# Altium schematic symbol library WE-MLS.SchLib: 10 symbols
Pins are listed as number, name and electrical type; pins without a type are passive.

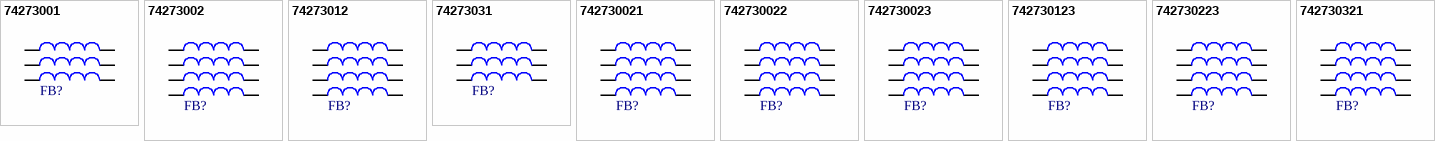
[diagram p0: symbols 74273001 to 742730321]

## 74273001
designator FB?, comment 264Ohm  (value not drawn)
WE-MLS Multiline EMI Suppression Ferrite, 3 Lines, 264Ohm, 4A; Manufacturer Part Number: 74273001; Manufacturer: Wurth Elektronik; DC Resistance Max: 2mOhm; Impedance @25MHz: 212Ohm; Type: 3 Lines; Category: Ferrites for PCB Assembly; Match Code: WE-MLS; ComponentLink1Description: Website Link; ComponentLink1URL: https://www.we-online.com/redexpert/article/74273001?ad; ComponentLink2Description: Datasheet Link; ComponentLink2URL: https://www.we-online.com/redexpert/spec/74273001?ad; Mount: Through Hole; Operating Temperature Max: 125°C; Operating Temperature Min: -25°C; Packaging: Tube; Length: 7.62mm; Width: 5.08mm; Height: 10mm; Impedance @100MHz: 264Ohm; Rated Current: 4A
footprint 74273001
pins: 1, 2, 3, 4, 5, 6

## 74273002
designator FB?, comment 249Ohm  (value not drawn)
WE-MLS Multiline EMI Suppression Ferrite, 4 Lines, 249Ohm, 4A; Manufacturer Part Number: 74273002; Manufacturer: Wurth Elektronik; DC Resistance Max: 2mOhm; Impedance @25MHz: 209Ohm; Type: 4 Lines; Category: Ferrites for PCB Assembly; Match Code: WE-MLS; ComponentLink1Description: Website Link; ComponentLink1URL: https://www.we-online.com/redexpert/article/74273002?ad; ComponentLink2Description: Datasheet Link; ComponentLink2URL: https://www.we-online.com/redexpert/spec/74273002?ad; Mount: Through Hole; Operating Temperature Max: 125°C; Operating Temperature Min: -25°C; Packaging: Tube; Length: 10.88mm; Width: 5.49mm; Height: 11.2mm; Impedance @100MHz: 249Ohm; Rated Current: 4A
footprint 74273002
pins: 1, 2, 3, 4, 5, 6, 7, 8

## 74273012
designator FB?, comment 249Ohm  (value not drawn)
WE-MLS Multiline EMI Suppression Ferrite, 4 Lines, 249Ohm, 4A; Manufacturer Part Number: 74273012; Manufacturer: Wurth Elektronik; DC Resistance Max: 2mOhm; Impedance @25MHz: 209Ohm; Type: 4 Lines; Category: Ferrites for PCB Assembly; Match Code: WE-MLS; ComponentLink1Description: Website Link; ComponentLink1URL: https://www.we-online.com/redexpert/article/74273012?ad; ComponentLink2Description: Datasheet Link; ComponentLink2URL: https://www.we-online.com/redexpert/spec/74273012?ad; Mount: Through Hole; Operating Temperature Max: 125°C; Operating Temperature Min: -25°C; Packaging: Tube; Length: 10.88mm; Width: 5.49mm; Height: 10mm; Impedance @100MHz: 249Ohm; Rated Current: 4A
footprint 74273012
pins: 1, 2, 3, 4, 5, 6, 7, 8

## 74273031
designator FB?, comment 264Ohm  (value not drawn)
WE-MLS Multiline EMI Suppression Ferrite, 3 Lines, 264Ohm, 4A; Manufacturer Part Number: 74273031; Manufacturer: Wurth Elektronik; DC Resistance Max: 2mOhm; Impedance @25MHz: 212Ohm; Type: 3 Lines; Category: Ferrites for PCB Assembly; Match Code: WE-MLS; ComponentLink1Description: Website Link; ComponentLink1URL: https://www.we-online.com/redexpert/article/74273031?ad; ComponentLink2Description: Datasheet Link; ComponentLink2URL: https://www.we-online.com/redexpert/spec/74273031?ad; Mount: Through Hole; Operating Temperature Max: 125°C; Operating Temperature Min: -25°C; Packaging: Tube; Length: 7.62mm; Width: 5.08mm; Height: 11.2mm; Impedance @100MHz: 264Ohm; Rated Current: 4A
footprint 74273031
pins: 1, 2, 3, 4, 5, 6

## 742730021
designator FB?, comment 170Ohm  (value not drawn)
WE-MLS Multiline EMI Suppression Ferrite, 4 Lines, 170Ohm, 4A; Manufacturer Part Number: 742730021; Manufacturer: Wurth Elektronik; DC Resistance Max: 2mOhm; Impedance @25MHz: 136Ohm; Type: 4 Lines; Category: Ferrites for PCB Assembly; Match Code: WE-MLS; ComponentLink1Description: Website Link; ComponentLink1URL: https://www.we-online.com/redexpert/article/742730021?ad; ComponentLink2Description: Datasheet Link; ComponentLink2URL: https://www.we-online.com/redexpert/spec/742730021?ad; Mount: Through Hole; Operating Temperature Max: 125°C; Operating Temperature Min: -25°C; Packaging: Tube; Length: 11.2mm; Width: 11.2mm; Height: 11.75mm; Impedance @100MHz: 170Ohm; Rated Current: 4A
footprint 742730021
pins: 1, 2, 3, 4, 5, 6, 7, 8

## 742730022
designator FB?, comment 248Ohm  (value not drawn)
WE-MLS Multiline EMI Suppression Ferrite, 4 Lines, 248Ohm, 4A; Manufacturer Part Number: 742730022; Manufacturer: Wurth Elektronik; DC Resistance Max: 2mOhm; Impedance @25MHz: 208Ohm; Type: 4 Lines; Category: Ferrites for PCB Assembly; Match Code: WE-MLS; ComponentLink1Description: Website Link; ComponentLink1URL: https://www.we-online.com/redexpert/article/742730022?ad; ComponentLink2Description: Datasheet Link; ComponentLink2URL: https://www.we-online.com/redexpert/spec/742730022?ad; Mount: Through Hole; Operating Temperature Max: 125°C; Operating Temperature Min: -25°C; Packaging: Tube; Length: 11.2mm; Width: 11.2mm; Height: 11.75mm; Impedance @100MHz: 248Ohm; Rated Current: 4A
footprint 742730022
pins: 1, 2, 3, 4, 5, 6, 7, 8

## 742730023
designator FB?, comment 334Ohm  (value not drawn)
WE-MLS Multiline EMI Suppression Ferrite, 4 Lines, 334Ohm, 4A; Manufacturer Part Number: 742730023; Manufacturer: Wurth Elektronik; DC Resistance Max: 2mOhm; Impedance @25MHz: 292Ohm; Type: 4 Lines; Category: Ferrites for PCB Assembly; Match Code: WE-MLS; ComponentLink1Description: Website Link; ComponentLink1URL: https://www.we-online.com/redexpert/article/742730023?ad; ComponentLink2Description: Datasheet Link; ComponentLink2URL: https://www.we-online.com/redexpert/spec/742730023?ad; Mount: Through Hole; Operating Temperature Max: 125°C; Operating Temperature Min: -25°C; Packaging: Tube; Length: 11.2mm; Width: 11.2mm; Height: 13.95mm; Impedance @100MHz: 334Ohm; Rated Current: 4A
footprint 742730023
pins: 1, 2, 3, 4, 5, 6, 7, 8

## 742730123
designator FB?, comment 334Ohm  (value not drawn)
WE-MLS Multiline EMI Suppression Ferrite, 4 Lines, 334Ohm, 4A; Manufacturer Part Number: 742730123; Manufacturer: Wurth Elektronik; DC Resistance Max: 2mOhm; Impedance @25MHz: 292Ohm; Type: 4 Lines; Category: Ferrites for PCB Assembly; Match Code: WE-MLS; ComponentLink1Description: Website Link; ComponentLink1URL: https://www.we-online.com/redexpert/article/742730123?ad; ComponentLink2Description: Datasheet Link; ComponentLink2URL: https://www.we-online.com/redexpert/spec/742730123?ad; Mount: Through Hole; Operating Temperature Max: 125°C; Operating Temperature Min: -25°C; Packaging: Tube; Length: 11.2mm; Width: 11.2mm; Height: 11mm; Impedance @100MHz: 334Ohm; Rated Current: 4A
footprint 742730123
pins: 1, 2, 3, 4, 5, 6, 7, 8

## 742730223
designator FB?, comment 334Ohm  (value not drawn)
WE-MLS Multiline EMI Suppression Ferrite, 4 Lines, 334Ohm, 4A; Manufacturer Part Number: 742730223; Manufacturer: Wurth Elektronik; DC Resistance Max: 2mOhm; Impedance @25MHz: 292Ohm; Type: 4 Lines; Category: Ferrites for PCB Assembly; Match Code: WE-MLS; ComponentLink1Description: Website Link; ComponentLink1URL: https://www.we-online.com/redexpert/article/742730223?ad; ComponentLink2Description: Datasheet Link; ComponentLink2URL: https://www.we-online.com/redexpert/spec/742730223?ad; Mount: Through Hole; Operating Temperature Max: 125°C; Operating Temperature Min: -25°C; Packaging: Tube; Length: 11.2mm; Width: 11.2mm; Height: 11mm; Impedance @100MHz: 334Ohm; Rated Current: 4A
footprint 742730223
pins: 1, 2, 3, 4, 5, 6, 7, 8

## 742730321
designator FB?, comment 150Ohm  (value not drawn)
WE-MLS Multiline EMI Suppression Ferrite, 4 Lines, 150Ohm, 4A; Manufacturer Part Number: 742730321; Manufacturer: Wurth Elektronik; DC Resistance Max: 2mOhm; Impedance @25MHz: 115Ohm; Type: 4 Lines; Category: Ferrites for PCB Assembly; Match Code: WE-MLS; ComponentLink1Description: Website Link; ComponentLink1URL: https://www.we-online.com/redexpert/article/742730321?ad; ComponentLink2Description: Datasheet Link; ComponentLink2URL: https://www.we-online.com/redexpert/spec/742730321?ad; Mount: Through Hole; Operating Temperature Max: 125°C; Operating Temperature Min: -25°C; Packaging: Tube; Length: 11.2mm; Width: 11.2mm; Height: 5mm; Impedance @100MHz: 150Ohm; Rated Current: 4A
footprint 742730321
pins: 1, 2, 3, 4, 5, 6, 7, 8